# EAGLE library part ADR435 (library motorFeedback)
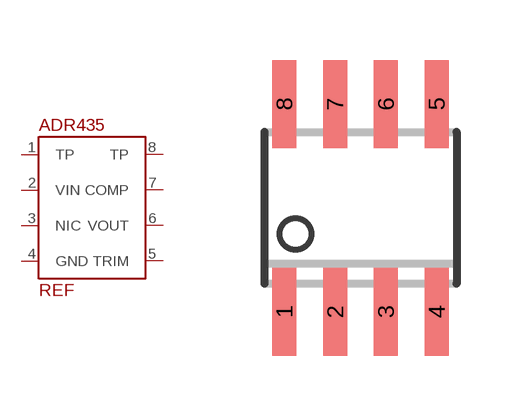
[diagram p26: symbol with the pads of SOIC8; footprint SOIC8]

Designator prefix REF

## ADR435RM-8  [SOIC8]
1  TP
2  VIN
3  NIC
4  GND
5  TRIM
6  VOUT
7  COMP
8  TP

## Footprint SOIC8 (pad centres in mm)
Small Outline IC
smd 0.6 x 2.2: 1 -1.905,-2.6; 2 -0.635,-2.6; 3 0.635,-2.6; 4 1.905,-2.6; 5 1.905,2.6; 6 0.635,2.6; 7 -0.635,2.6; 8 -1.905,2.6